# Altium footprint library PcbLib1.PcbLib: 5 footprints
Each footprint in its own frame and in the unit in brackets; x right, y up, seen from the top. Pads: shape width x height; smd on the part's side, far side on the other; paste and mask are expansions set on the pad; w line width, h text height; cw(c..) or ccw(c..) is an arc to the next point about the centre after c.
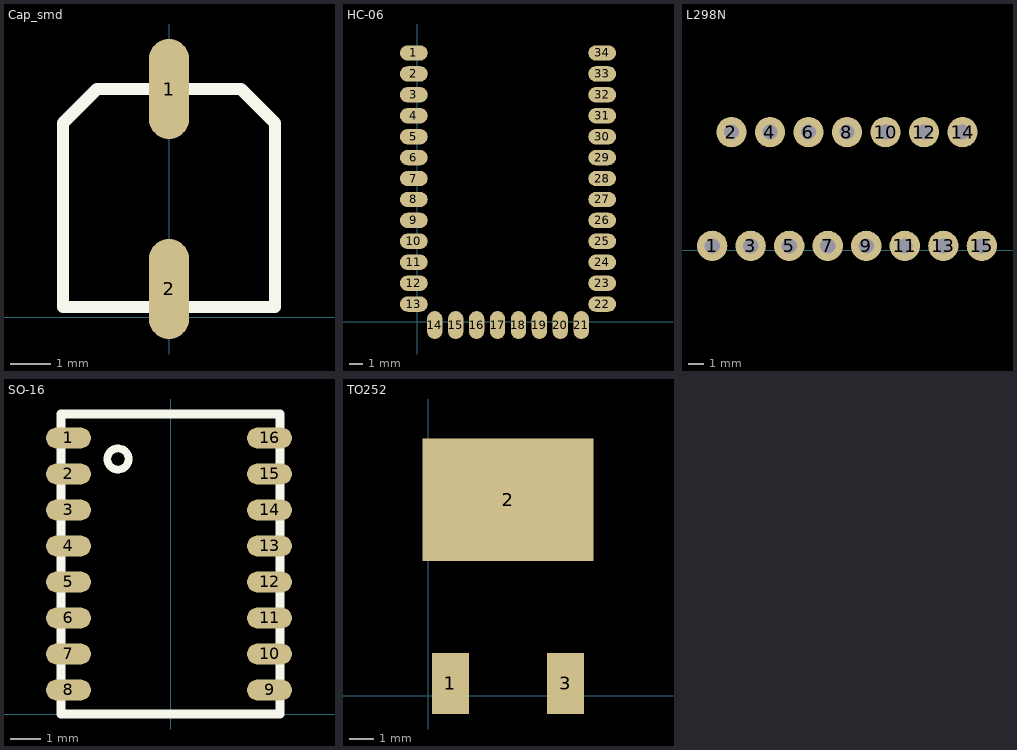
[diagram p0: the footprints below, top view; thin cyan lines are the x and y axes]

## Cap_smd [mm]
pads (2):
  oval 1x2.5 smd: 1(0,5.7) 2(0,0.7)
Top Overlay:
  lines w0.3: -2.65,0.25 -2.65,4.85 -1.8,5.7 1.8,5.7 2.65,4.85 2.65,0.25 -2.65,0.25
3D body "Cap_5x5_4.stp": height 5.7, standoff 0, extent -2.65,0 2.65,6.3

## HC-06 [mm]
pads (34):
  oval 2x1.1 smd: 1(-0.25,19.25) 2(-0.25,17.75) 3(-0.25,16.25) 4(-0.25,14.75) 5(-0.25,13.25) 6(-0.25,11.75) 7(-0.25,10.25) 8(-0.25,8.75) 9(-0.25,7.25) 10(-0.25,5.75) 11(-0.25,4.25) 12(-0.25,2.75) 13(-0.25,1.25) 22(13.25,1.25) 23(13.25,2.75) 24(13.25,4.25) 25(13.25,5.75) 26(13.25,7.25) 27(13.25,8.75) 28(13.25,10.25) 29(13.25,11.75) 30(13.25,13.25) 31(13.25,14.75) 32(13.25,16.25) 33(13.25,17.75) 34(13.25,19.25)
  oval 1.1x2 smd: 14(1.25,-0.25) 15(2.75,-0.25) 16(4.25,-0.25) 17(5.75,-0.25) 18(7.25,-0.25) 19(8.75,-0.25) 20(10.25,-0.25) 21(11.75,-0.25)
3D body "bluetooth.stp": height 4.3, standoff 0, extent 0,0 13,27

## L298N [mm]
pads (15):
  round 2 hole 1: 1(2.4,0.3) 2(3.67,7.8) 3(4.94,0.3) 4(6.21,7.8) 5(7.48,0.3) 6(8.75,7.8) 7(10.02,0.3) 8(11.29,7.8) 9(12.56,0.3) 10(13.83,7.8) 11(15.1,0.3) 12(16.37,7.8) 13(17.64,0.3) 14(18.91,7.8) 15(20.18,0.3)
3D body "L298N.step": height 23.79, standoff -3.51, extent 0.1,0 23.1,20

## SO-16 [mm]
pads (16):
  oval 1.5x0.7 smd: 1(-3.4,9.2) 2(-3.4,8) 3(-3.4,6.8) 4(-3.4,5.6) 5(-3.4,4.4) 6(-3.4,3.2) 7(-3.4,2) 8(-3.4,0.8) 9(3.3,0.8) 10(3.3,2) 11(3.3,3.2) 12(3.3,4.4) 13(3.3,5.6) 14(3.3,6.8) 15(3.3,8) 16(3.3,9.2)
Top Overlay:
  circle w0.254: c-1.75,8.5 r0.354
  region: -2,9.5
  region: -2,9.5
  lines w0.3: -3.65,0 -3.65,10 3.65,10 3.65,0 -3.65,0
3D body "smdChip16pin.stp": height 1.2, standoff -0.02, extent -3.65,0 3.65,10

## TO252 [mm]
pads (3):
  rect 1.524x2.5 smd: 1(0.9,0.5) 3(5.6,0.5)
  rect 7x5 smd: 2(3.25,8)
3D body "TO252.STEP": height 2.35, standoff -0.05, extent 0,0 6.5,9.1